# EAGLE library part LTC1751-5 (library MyPowerComponents)
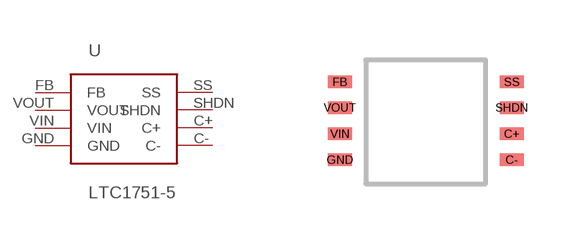
[diagram p0: symbol with the pads of LTC1751-5; footprint LTC1751-5]

Designator prefix -

## LTC1751-5  [LTC1751-5]
C+  C+
C-  C-
FB  FB
GND  GND
SHDN  SHDN
SS  SS
VIN  VIN
VOUT  VOUT

## Footprint LTC1751-5 (pad centres in mm)
smd 0.61 x 0.305: C+ 2.15,0; C- 2.15,-0.65; FB -2.15,1.3; GND -2.15,-0.65; SHDN 2.15,0.65; SS 2.15,1.3; VIN -2.15,0; VOUT -2.15,0.65